# Altium footprint library 7Seg-ACSA02_1.PcbLib: 1 footprints
Each footprint in its own frame and in the unit in brackets; x right, y up, seen from the top. Pads: shape width x height; smd on the part's side, far side on the other; paste and mask are expansions set on the pad; w line width, h text height; cw(c..) or ccw(c..) is an arc to the next point about the centre after c.
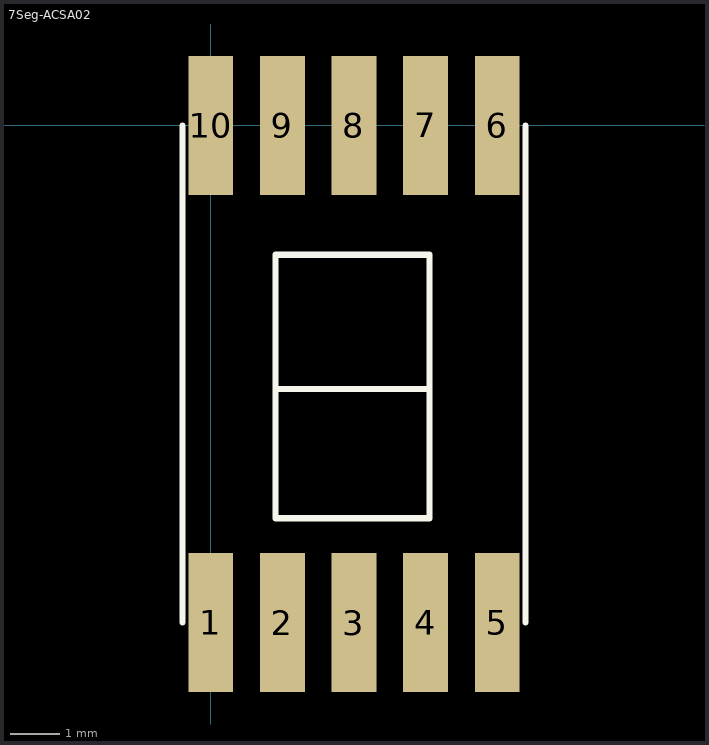
[diagram p0: the footprint, top view; thin cyan lines are the x and y axes]

## 7Seg-ACSA02 [mm]
pads (10):
  rect 0.9x2.8 smd: 1(0,-10) 2(1.44,-10) 3(2.88,-10) 4(4.32,-10) 5(5.76,-10) 6(5.76,0) 7(4.32,0) 8(2.88,0) 9(1.44,0) 10(0,0)
Top Overlay:
  lines w0.127: -0.57,-10 -0.57,0 ; 1.3,-5.3 4.4,-5.3 ; 1.3,-5.25 1.3,-2.6 ; 6.33,-10 6.33,0 ; 1.3,-2.6 1.3,-7.9 4.4,-7.9 4.4,-2.6 1.3,-2.6
3D body "ACSX02-41.STEP": height 3, standoff -0.05, extent -0.554,-10.029 6.346,-0.029